# Altium integrated library FUSE seat.IntLib: 1 symbol
Pins are listed as number, name and electrical type; pins without a type are passive.

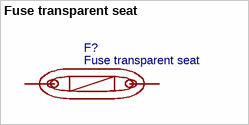
[diagram p0: symbol Fuse transparent seat]

## Fuse transparent seat
designator F?
BOM_Manufacturer: ReliaPro; BOM_Supplier: LCSC; BOM_Manufacturer Part: Fuse transparent seat; BOM_Supplier Part: C58066; BOM_JLCPCB Part Class: Extended Part; spicePre: F; spiceSymbolName: Fuse transparent seat
footprint FUSE-TH_L24.5-W9.8-P22.5
pins: 1, 2